# Altium footprint library DIP16.PcbLib: 3 footprints
Each footprint in its own frame and in the unit in brackets; x right, y up, seen from the top. Pads: shape width x height; smd on the part's side, far side on the other; paste and mask are expansions set on the pad; w line width, h text height; cw(c..) or ccw(c..) is an arc to the next point about the centre after c.
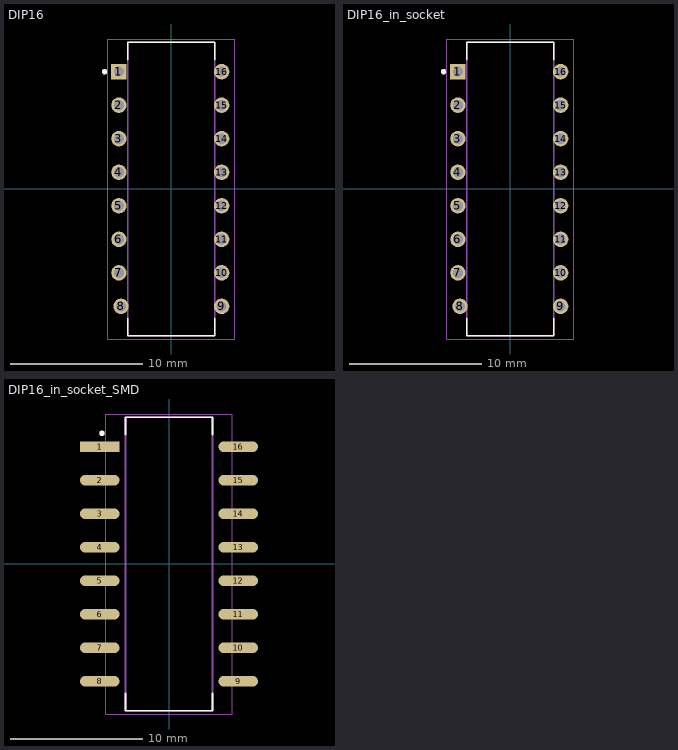
[diagram p0: the footprints below, top view; thin cyan lines are the x and y axes]

## DIP16 [mm]
pads (16):
  rect 1.17x1.17 hole 0.77: 1(-3.97,8.89)
  round 1.17 hole 0.77: 2(-3.97,6.35) 3(-3.97,3.81) 4(-3.97,1.27) 5(-3.97,-1.27) 6(-3.97,-3.81) 7(-3.97,-6.35) 8(-3.81,-8.89) 9(3.81,-8.89) 10(3.81,-6.35) 11(3.81,-3.81) 12(3.81,-1.27) 13(3.81,1.27) 14(3.81,3.81) 15(3.81,6.35) 16(3.81,8.89)
Top Overlay:
  circle w0.2: c-5.055,8.89 r0.1
  lines w0.127: -3.3,-9.795 -3.3,-11.115 3.3,-11.115 3.3,-9.795 ; -3.3,9.795 -3.3,11.115 3.3,11.115 3.3,9.795
Mechanical 13:
  circle w0.2: c-5.055,8.89 r0.1
  lines w0.127: -3.3,-11.115 -3.3,11.115 3.3,11.115 3.3,-11.115 -3.3,-11.115
Mechanical 15:
  lines w0.05: -4.805,-11.365 -4.805,11.365 4.805,11.365 4.805,-11.365 -4.805,-11.365
3D body "User Library-DIP16-22mm.STEP": height 5.15, standoff -2.49, extent -4.095,-11 3.775,11

## DIP16_in_socket [mm]
pads (16):
  rect 1.17x1.17 hole 0.77: 1(-3.97,8.89)
  round 1.17 hole 0.77: 2(-3.97,6.35) 3(-3.97,3.81) 4(-3.97,1.27) 5(-3.97,-1.27) 6(-3.97,-3.81) 7(-3.97,-6.35) 8(-3.81,-8.89) 9(3.81,-8.89) 10(3.81,-6.35) 11(3.81,-3.81) 12(3.81,-1.27) 13(3.81,1.27) 14(3.81,3.81) 15(3.81,6.35) 16(3.81,8.89)
Top Overlay:
  circle w0.2: c-5.055,8.89 r0.1
  lines w0.127: -3.3,-9.795 -3.3,-11.115 3.3,-11.115 3.3,-9.795 ; -3.3,9.795 -3.3,11.115 3.3,11.115 3.3,9.795
Mechanical 13:
  circle w0.2: c-5.055,8.89 r0.1
  lines w0.127: -3.3,-11.115 -3.3,11.115 3.3,11.115 3.3,-11.115 -3.3,-11.115
Mechanical 15:
  lines w0.05: -4.805,-11.365 -4.805,11.365 4.805,11.365 4.805,-11.365 -4.805,-11.365
3D body "DIP-16 W7.62mm IC with Socket.stp": height 7.88, standoff -3.13, extent -5.24,-10.46 4.96,10.46

## DIP16_in_socket_SMD [mm]
pads (16):
  rect 3x0.8 smd: 1(-5.25,8.89)
  oval 3x0.8 smd: 2(-5.25,6.35) 3(-5.25,3.81) 4(-5.25,1.27) 5(-5.25,-1.27) 6(-5.25,-3.81) 7(-5.25,-6.35) 8(-5.25,-8.89) 9(5.25,-8.89) 10(5.25,-6.35) 11(5.25,-3.81) 12(5.25,-1.27) 13(5.25,1.27) 14(5.25,3.81) 15(5.25,6.35) 16(5.25,8.89)
Top Overlay:
  circle w0.2: c-5.08,9.906 r0.1
  lines w0.127: -3.3,-9.795 -3.3,-11.115 3.3,-11.115 3.3,-9.795 ; -3.3,9.795 -3.3,11.115 3.3,11.115 3.3,9.795
Mechanical 13:
  circle w0.2: c-5.08,9.906 r0.1
  lines w0.127: -3.3,-11.115 -3.3,11.115 3.3,11.115 3.3,-11.115 -3.3,-11.115
Mechanical 15:
  lines w0.05: -4.805,-11.365 -4.805,11.365 4.805,11.365 4.805,-11.365 -4.805,-11.365
3D body "DIP-16 W7.62mm IC with Socket.stp": height 7.88, standoff -3.13, extent -5.24,-10.46 4.96,10.46